# Altium schematic symbol library OurSuperMiniCar.SchLib: 21 symbols
Pins are listed as number, name and electrical type; pins without a type are passive.

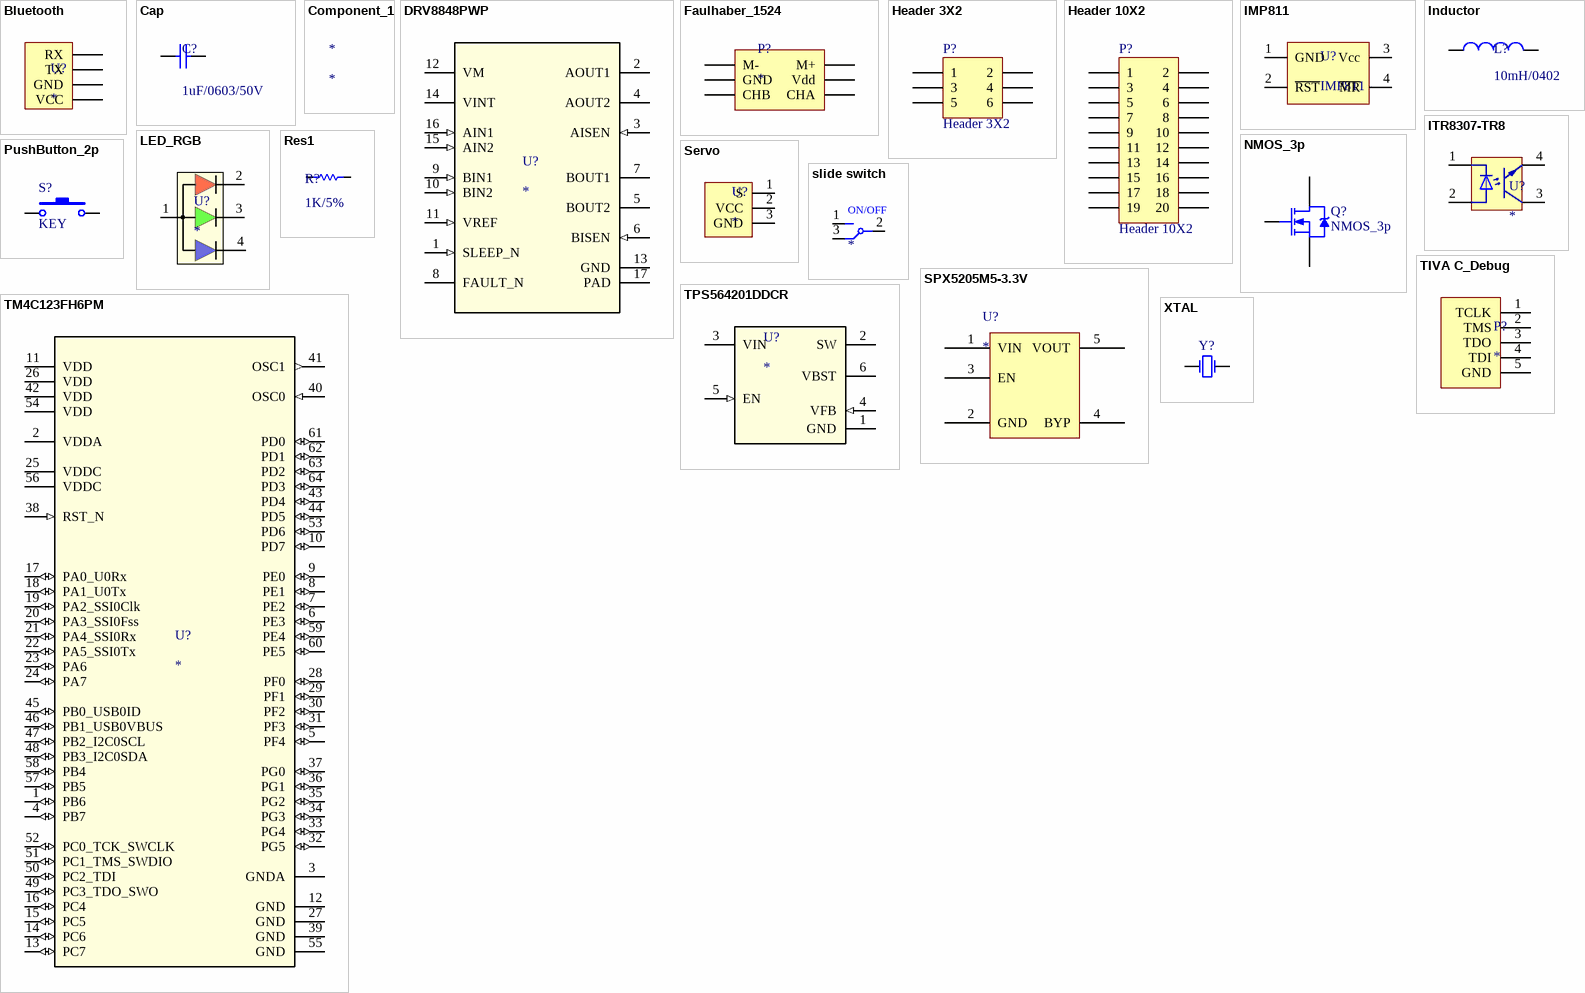
[diagram p0: symbols Bluetooth to XTAL]

## Bluetooth
designator U?
Bluetooth Module
footprint HDR1X4 (Connector; Header; 4 Position)
footprint SMT_Female HEADER4
pins: 1 RX (oc), 2 TX (oc), 3 GND (oc), 4 VCC (oc)

## Cap
designator C?, comment 1uF/0603/50V
Capacitor; Value: 100pF; Published: 8-Jun-2000; LatestRevisionDate: 17-Jul-2002; LatestRevisionNote: Re-released for DXP Platform.; PackageReference: RAD-0.3; Publisher: Altium Limited; PackageDescription: Radial Cap, Thru-Hole; 2 Leads; 0.3 in Pin Spacing
simulation model CAP (Capacitor)
signal-integrity model Cap
footprint 0603C
footprint 1210C
footprint 0805
pins: 1, 2

## Component_1
designator *

## DRV8848PWP
designator U?
Imported; PartNumber: DRV8848PWPR; Alternate_PartNumber: DRV8848PWP; Manufacturer: Texas Instruments; CompType: IC; PIN_COUNT: 17; PackageReference: PWP0016C; MountType: SMT; RoHS: Y; RefDes: RefDes; TYPE: TYPE; Value: Value
footprint HSSOP_M
footprint HSSOP_L
footprint HSSOP_N
pins: 1 SLEEP_N (in), 2 AOUT1 (power), 3 AISEN (in), 4 AOUT2 (power), 5 BOUT2 (power), 6 BISEN (in), 7 BOUT1 (power), 8 FAULT_N (oc), 9 BIN1 (in), 10 BIN2 (in), 11 VREF (in), 12 VM (power), 13 GND (power), 14 VINT (power), 15 AIN2 (in), 16 AIN1 (in), 17 PAD (power)

## Faulhaber_1524
designator P?
footprint HDR2X3_2.0mmDC
footprint HDR2X3_2.0Mm
pins: 1 M-, 2 M+, 3 GND (power), 4 Vdd (power), 5 CHB, 6 CHA

## Header 3X2
designator P?
Header, 3-Pin, Dual row; LatestRevisionDate: 17-Jul-2002; LatestRevisionNote: Re-released for DXP Platform.; Publisher: Altium Limited
footprint HDR2X3 (Connector; Header; 3x2 Position)
signal-integrity model Connector
footprint HDR2X3_2.0Mm
pins: 1, 2, 3, 4, 5, 6

## Header 10X2
designator P?
Header, 10-Pin, Dual row; LatestRevisionDate: 17-Jul-2002; LatestRevisionNote: Re-released for DXP Platform.; Publisher: Altium Limited
footprint HDR2X10 (Connector; Header; 10x2 Position)
signal-integrity model Connector
footprint HDR2X10_SMD_PIN
pins: 1, 2, 3, 4, 5, 6, 7, 8, 9, 10, 11, 12, 13, 14, 15, 16, 17, 18, 19, 20

## IMP811
designator U?
复位芯片
footprint SOT143
pins: 1 GND (power), 2 ~{RST}, 3 Vcc, 4 ~{MR}

## Inductor
designator L?, comment 10mH/0402
Inductor; Code_IEC: 1005; Value: 10mH; Published: 8-Jun-2000; LatestRevisionDate: 29-May-2009; LatestRevisionNote: IPC-7351 Footprint Added.; PackageReference: 0402-A; Publisher: Altium Limited; PackageDescription: Chip Inductor; Code_JEITA: 0402
footprint 0603 (Chip Resistor, 2-Leads, Body 1.6x0.8mm, IPC Medium Density)
simulation model INDUCTOR (Inductor)
signal-integrity model Inductor
footprint 0420L (一体成型贴片电感)
footprint 0630L (一体成型贴片电感)
footprint Power_Inductor (Precision Wire Wound Inductor, 2-Leads, Body 12.00x12.00mm, IPC Medium Density)
footprint INDP3030X10N (Precision Wire Wound Inductor, 2-Leads, Body 3.00x2.95mm, IPC Medium Density)
footprint 环形电感_27mm磁芯（卧式）
footprint 环形电感_46.7mm磁芯（卧式）
footprint 4020L
pins: 1, 2

## ITR8307-TR8
designator U?
footprint SOP-4
pins: 1 CATHODE, 2 ANODE (oc), 3 COLLECTER (oc), 4 EMITTER

## LED_RGB
designator U?
footprint 0603 RGB
pins: 1 COM, 2 (oc), 3 (oc), 4 (oc)

## NMOS_3p
designator Q?
N-Channel Power MOSFET; Note: Pin 2 is electrically connected to pin 4.; Published: 8-Jun-2000; LatestRevisionDate: 17-Jul-2002; LatestRevisionNote: Re-released for DXP Platform.; DatasheetVersion: PD-9.814; PackageVersion: Feb-1997; PackageReference: TO-220AB; Publisher: Altium Limited; PackageDescription: TO, Thru-Hole, Vertical, Heatsink Mounted; 3 In-Line Leads; Pitch 2.54 mm; ComponentLink1Description: Manufacturer Link; ComponentLink1URL: http://www.irf.com/
simulation model IRF1010 (Spice Subcircuit)
footprint SOT-23
pins: 1 G, 2 S, 3 D

## PushButton_2p
designator S?, comment KEY
Button; Published: 24-Mar-1999; LatestRevisionDate: 17-Jul-2002; LatestRevisionNote: Re-released for DXP Platform.; PackageReference: SPST-2; Publisher: Altium Limited; PackageDescription: Switch; 2 Leads
footprint SW-3x6mm-SMT (两脚贴片轻触开关3x6mm)
pins: 1, 2

## Res1
designator R?, comment 1K/5%
Resistor; Value: 1K; Published: 8-Jun-2000; LatestRevisionDate: 17-Jul-2002; LatestRevisionNote: Re-released for DXP Platform.; PackageReference: AXIAL-0.3; Publisher: Altium Limited; PackageDescription: Axial Device, Thru-Hole; 2 Leads; 0.3 in Pin Spacing
simulation model RESISTOR (Resistor)
signal-integrity model Res
footprint 0603R
footprint 0402
pins: 1, 2

## Servo
designator U?
footprint HDR1X3 (Connector; Header; 3 Position)
footprint HDR1X3_SMT
pins: 1 S (oc), 2 VCC (oc), 3 GND (oc)

## slide switch
designator S?
footprint Slide Switch
pins: 1 NX (oc), 2 COM (oc), 3 NC (oc)
text: ON/OFF

## SPX5205M5-3.3V
designator U?
footprint SOT-23-5 L
pins: 1 VIN, 2 GND, 3 EN, 4 BYP, 5 VOUT

## TIVA C_Debug
designator P?
footprint A1.25WF-5P
footprint HDR1X5 (Connector; Header; 5 Position)
footprint SMT_HEADER5
pins: 1 TCLK, 2 TMS, 3 TDO, 4 TDI, 5 GND

## TM4C123FH6PM
designator U?
footprint LQFP_64
footprint LQFP_64
pins: 1 PB6 (io), 2 VDDA (power), 3 GNDA (power), 4 PB7 (io), 5 PF4 (io), 6 PE3 (io), 7 PE2 (io), 8 PE1 (io), 9 PE0 (io), 10 PD7 (io), 11 VDD (power), 12 GND (power), 13 PC7 (io), 14 PC6 (io), 15 PC5 (io), 16 PC4 (io), 17 PA0_U0Rx (io), 18 PA1_U0Tx (io), 19 PA2_SSI0Clk (io), 20 PA3_SSI0Fss (io), 21 PA4_SSI0Rx (io), 22 PA5_SSI0Tx (io), 23 PA6 (io), 24 PA7 (io), 25 VDDC (power), 26 VDD (power), 27 GND (power), 28 PF0 (io), 29 PF1 (io), 30 PF2 (io), 31 PF3 (io), 32 PG5 (io), 33 PG4 (io), 34 PG3 (io), 35 PG2 (io), 36 PG1 (io), 37 PG0 (io), 38 RST_N (in), 39 GND (power), 40 OSC0 (in), 41 OSC1 (out), 42 VDD (power), 43 PD4 (io), 44 PD5 (io), 45 PB0_USB0ID (io), 46 PB1_USB0VBUS (io), 47 PB2_I2C0SCL (io), 48 PB3_I2C0SDA (io), 49 PC3_TDO_SWO (io), 50 PC2_TDI (io), 51 PC1_TMS_SWDIO (io), 52 PC0_TCK_SWCLK (io), 53 PD6 (io), 54 VDD (power), 55 GND (power), 56 VDDC (power), 57 PB5 (io), 58 PB4 (io), 59 PE4 (io), 60 PE5 (io), 61 PD0 (io), 62 PD1 (io), 63 PD2 (io), 64 PD3 (io)

## TPS564201DDCR
designator U?
Imported; PartNumber: TPS564201DDCR; Manufacturer: Texas Instruments; RefDes: RefDes; TYPE: TYPE; Value: Value
footprint DDC0006A_N
footprint SOT-23thin_L
footprint Model Name (Footprint not found)
footprint SOT-23THIN_M
footprint SOT-23thin_N
pins: 1 GND (power), 2 SW (power), 3 VIN (power), 4 VFB (in), 5 EN (in), 6 VBST (power)

## XTAL
designator Y?  (value not drawn)
Crystal Oscillator; Published: 8-Jun-2000; LatestRevisionDate: 17-Jul-2002; LatestRevisionNote: Re-released for DXP Platform.; PackageReference: R38; Publisher: Altium Limited; PackageDescription: Crystal, Thru-Hole; 2 Leads; Body 3.1 x 8.2 mm (Dia.xH)
simulation model XTAL (Spice Subcircuit)
footprint NX5032GA (贴片晶振，5mm x 3.2mm)
pins: 1 OSC1, 2 OSC2